# Altium integrated library Analog.IntLib: 2 symbols
Pins are listed as number, name and electrical type; pins without a type are passive.

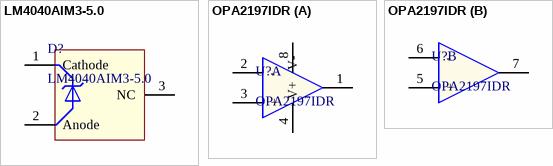
[diagram p0: symbols LM4040AIM3-5.0 to OPA2197IDR]

## LM4040AIM3-5.0
designator D?
LM4040-N/-Q1 精密微功耗并联电压基准
footprint SOT-23 (Footprint not found)
pins: 1 Cathode, 2 Anode, 3 NC

## OPA2197IDR
designator U?
OPAx197 36V 轨到轨输入/输出 低失调电压精密运算放大器
footprint SO-8_3.9x4.9mm_P1.27mm (SOIC, 8-Leads, Body 4.9x3.90mm, Pitch 1.27mm, IPC Medium Density)
part A pins: 1 OUT, 2 -, 3 +, 4        V-, 8         V+
part B pins: 5 +, 6 -, 7 OUT